# Altium footprint library CAPPM730X435X430L135X240N.PcbLib: 1 footprints
Each footprint in its own frame and in the unit in brackets; x right, y up, seen from the top. Pads: shape width x height; smd on the part's side, far side on the other; paste and mask are expansions set on the pad; w line width, h text height; cw(c..) or ccw(c..) is an arc to the next point about the centre after c.
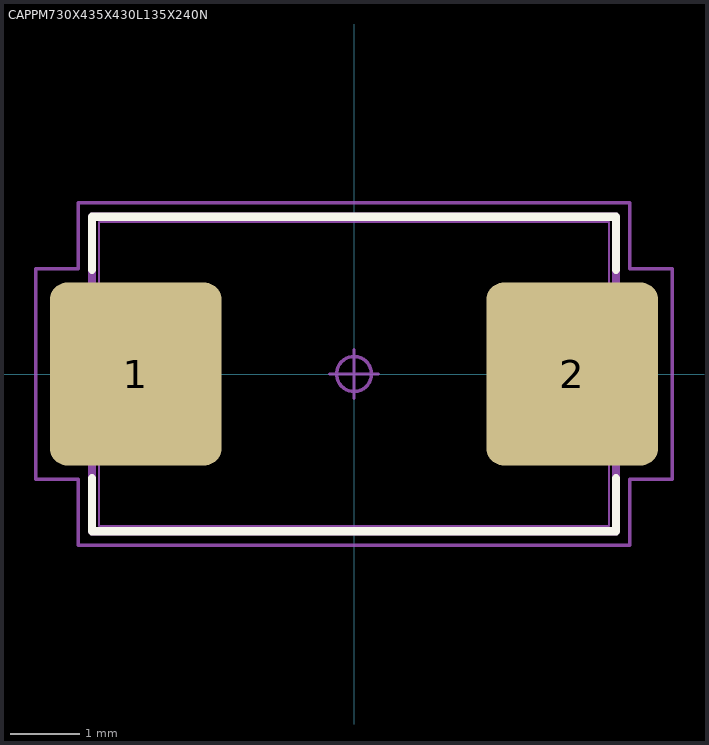
[diagram p0: the footprint, top view; thin cyan lines are the x and y axes]

## CAPPM730X435X430L135X240N [mm] "Capacitor, Polarized, Molded Body; 7.30 mm L X 4.35 mm W X 4.30 mm H body"
height 4.3
pads (2):
  rrect20% 2.46x2.62 smd: 1(-3.125,0) 2(3.125,0)
Top Overlay:
  lines w0.12: -3.75,-1.49 -3.75,-2.25 3.75,-2.25 3.75,-1.49 ; -3.75,1.49 -3.75,2.25 3.75,2.25 3.75,1.49
Mechanical 11:
  lines w0.12: -3.75,-2.25 -3.75,2.25 3.75,2.25 3.75,-2.25 -3.75,-2.25
Mechanical 12:
  lines w0.025: -3.65,-2.175 -3.65,2.175 3.65,2.175 3.65,-2.175 -3.65,-2.175 ; -3.65,-1.2 -2.3,-1.2 -2.3,1.2 -3.65,1.2 -3.65,-1.2 ; 2.3,-1.2 2.3,1.2 3.65,1.2 3.65,-1.2 2.3,-1.2
Mechanical 15:
  circle w0.05: c0,0 r0.25
  lines w0.05: -0.35,0 0.35,0 ; 0,-0.35 0,0.35 ; -4.555,-1.51 -4.555,1.51 -3.95,1.51 -3.95,2.45 3.95,2.45 3.95,1.51 4.555,1.51 4.555,-1.51 3.95,-1.51 3.95,-2.45 -3.95,-2.45 -3.95,-1.51 -4.555,-1.51
Mechanical 16:
  text ".Designator" at 0,0 h1.2
3D body "CAPPM730X435X430L135X240.STEP": height 4.3, standoff 0, extent -3.65,-2.175 3.65,2.175